# Altium footprint library M4_Винт_с_шайбами.PcbLib: 1 footprints
Each footprint in its own frame and in the unit in brackets; x right, y up, seen from the top. Pads: shape width x height; smd on the part's side, far side on the other; paste and mask are expansions set on the pad; w line width, h text height; cw(c..) or ccw(c..) is an arc to the next point about the centre after c.
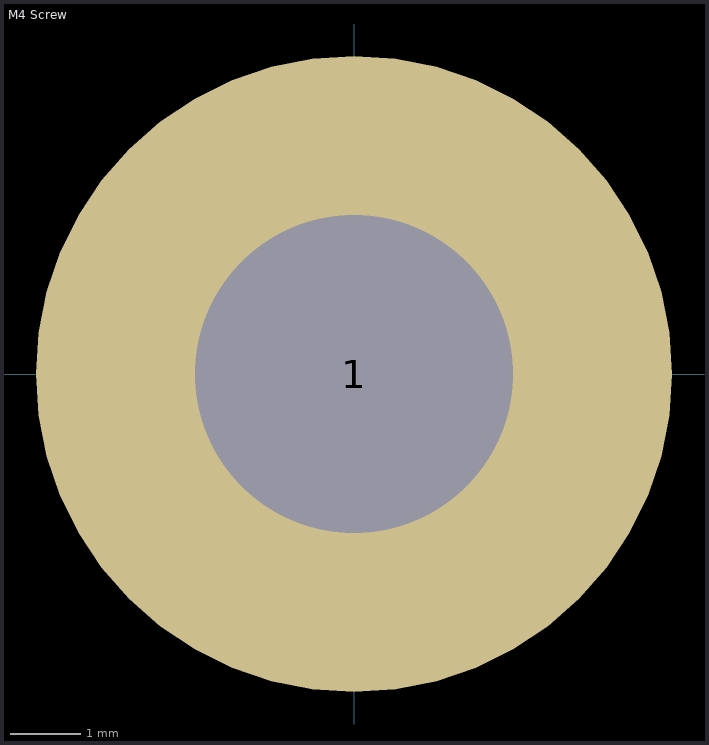
[diagram p0: the footprint, top view; thin cyan lines are the x and y axes]

## M4 Screw [mm] "Screw with nut"
pads (1):
  round 9 hole 4.5: 1(0,0)
3D body "Винт.STEP": height 3.5, standoff -6.2, extent -3.926,-3.4 3.926,3.4
3D body "Шайба.STEP": height 0.8, standoff 0, extent -4.4,-4.4 4.4,4.4
3D body "Шайба.STEP": height -2.14, standoff -2.94, extent -4.4,-4.4 4.4,4.4